# Altium schematic symbol library RCS06030000Z0EC.SchLib: 1 symbol
Pins are listed as number, name and electrical type; pins without a type are passive.

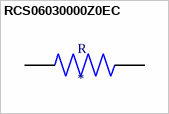
[diagram p0: symbol RCS06030000Z0EC]

## RCS06030000Z0EC
designator R
0 Ohms Jumper 0.25W, 1/4W Chip Resistor 0603 (1608 Metric) Automotive AEC-Q200, Pulse Withstanding Thick Film; MP: RCS06030000Z0EC; MF: Vishay; Value: *; Package: 1508 Vishay; Availability: Unavailable; Price: None; SnapEDA_Link: https://www.snapeda.com/parts/RCS06030000Z0EC/Vishay/view-part/4083711/?ref=snap; Arrow_Electronics-Purchase-URL: https://snapeda.com/shop?store=Arrow+Electronics&id=4083711
footprint RESC1508X50N
pins: 1, 2